# Altium integrated library Buzzer-Lib.IntLib: 1 symbol
Pins are listed as number, name and electrical type; pins without a type are passive.

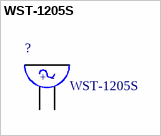
[diagram p0: symbol WST-1205S]

## WST-1205S
designator ?
Buzzer 2.3khz 4-6vdc Pcb Wash; MF: Soberton; MP: WST-1205S; Price: 0.92 USD; Availability: Warning; Package: Soberton; SnapEDA_Link: https://www.snapeda.com/parts/WST-1205S/Soberton/view-part/?ref=snap; Value: *
footprint WST-1205S_WST-1205S(Primary)
pins: NEG 2, POS 1
text: +; -